# Altium footprint library 射频滤波器.PcbLib: 1 footprints
Each footprint in its own frame and in the unit in brackets; x right, y up, seen from the top. Pads: shape width x height; smd on the part's side, far side on the other; paste and mask are expansions set on the pad; w line width, h text height; cw(c..) or ccw(c..) is an arc to the next point about the centre after c.
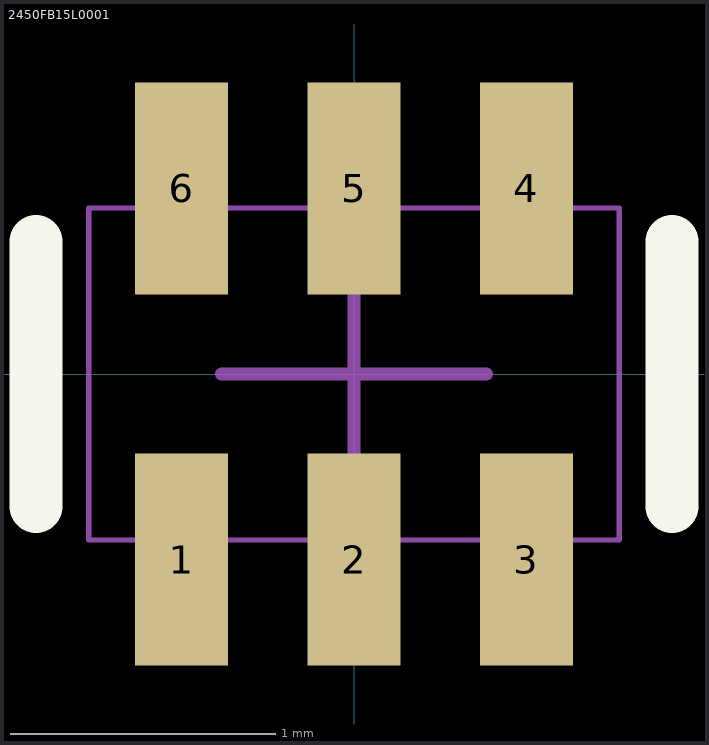
[diagram p0: the footprint, top view; thin cyan lines are the x and y axes]

## 2450FB15L0001 [mm] "巴伦 （滤波器） AT86RF230/231"
height 0.8
pads (6):
  rect 0.35x0.8 smd: 1(-0.65,-0.7) 2(0,-0.7) 3(0.65,-0.7) 4(0.65,0.7) 5(0,0.7) 6(-0.65,0.7)
Top Overlay:
  lines w0.2: -1.2,-0.5 -1.2,0.5 ; 1.2,-0.5 1.2,0.5
Mechanical 13:
  lines w0.02: -1,-0.626 1,-0.626 1,0.626 -1,0.626 -1,-0.626
Mechanical 15:
  lines w0.05: -0.5,0 0.5,0 ; 0,-0.5 0,0.5
3D body: height 0.8, standoff 0, extent -1,-0.626 1,0.626